# Altium schematic symbol library Current Sense Resistor.Schlib: 1 symbol
Pins are listed as number, name and electrical type; pins without a type are passive.

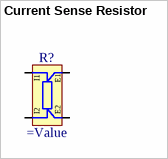
[diagram p0: symbol Current Sense Resistor]

## Current Sense Resistor
designator R?
Power and Current Sensing Resistor
pins: E1, E2, I1, I2